# Altium footprint library User Interface.PcbLib: 2 footprints
Each footprint in its own frame and in the unit in brackets; x right, y up, seen from the top. Pads: shape width x height; smd on the part's side, far side on the other; paste and mask are expansions set on the pad; w line width, h text height; cw(c..) or ccw(c..) is an arc to the next point about the centre after c.
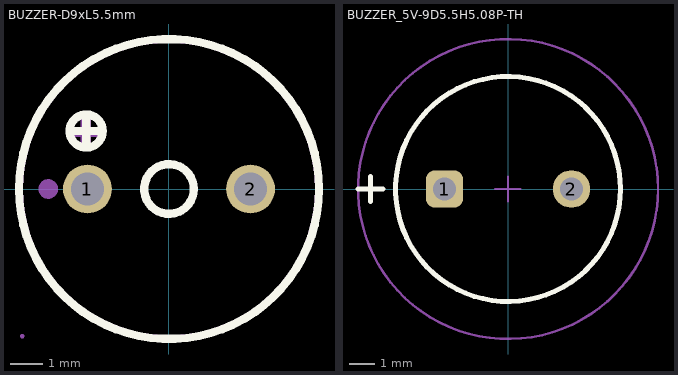
[diagram p0: the footprints below, top view; thin cyan lines are the x and y axes]

## BUZZER-D9xL5.5mm [mm]
pads (2):
  round 1.5 hole 1: 1(-2.5,0) 2(2.5,0)
Top Overlay:
  circle w0.254: c-2.54,1.778 r0.508
  circle w0.254: c0,0 r0.762
  circle w0.254: c0,0 r4.6
  lines w0.254: -3.048,1.778 -2.032,1.778 ; -2.54,1.27 -2.54,2.286
Mechanical 15:
  region: -4.44,-4.511 -4.44,-4.536 -4.475,-4.571 -4.525,-4.571 -4.56,-4.536 -4.56,-4.511 -4.56,-4.486 -4.525,-4.451 -4.475,-4.451 -4.44,-4.486
  region: -2.2,0 -2.2,-0.06 -2.246,-0.17 -2.33,-0.254 -2.44,-0.3 -2.56,-0.3 -2.67,-0.254 -2.754,-0.17 -2.8,-0.06 -2.8,0 -2.8,0.06 -2.754,0.17 -2.67,0.254 -2.56,0.3 -2.44,0.3 -2.33,0.254 -2.246,0.17 -2.2,0.06
  region: 2.8,0 2.8,-0.06 2.754,-0.17 2.67,-0.254 2.56,-0.3 2.44,-0.3 2.33,-0.254 2.246,-0.17 2.2,-0.06 2.2,0 2.2,0.06 2.246,0.17 2.33,0.254 2.44,0.3 2.56,0.3 2.67,0.254 2.754,0.17 2.8,0.06
  lines w0.051: -4.5,0 cw(c0,0.011) 4.5,0 cw(c0,-0.011) -4.5,0
Mechanical 29:
  circle w0.3: c-3.702,0 r0.15
  region: -3.1,1.6 -3.1,1.9 -2,1.9 -2,1.6
  region: -2.7,1.3 -2.7,2.2 -2.4,2.2 -2.4,1.3
  text "'.Designator'" at -0.66,-0.051 h1.52
3D body "CST-951AP--3DModel-STEP-1.STEP": height 4.5, standoff -4.5, extent -4.551,-4.398 4.449,4.602

## BUZZER_5V-9D5.5H5.08P-TH [mm]
pads (2):
  rrect50% 1.5x1.5 hole 0.9 mask+0.076: 1(-2.54,0)
  round 1.5 hole 0.9 mask+0.076: 2(2.54,0)
Top Overlay:
  circle w0.2: c0,0 r4.5
  lines w0.2: -6,0 -5,0 ; -5.5,-0.5 -5.5,0.5
Mechanical 15:
  circle w0.1: c0,0 r6
  lines w0.1: -0.5,0 0.5,0 ; 0,-0.5 0,0.5
Mechanical 29:
  circle w0.1: c0,0 r4.5
  lines w0.1: -6,0 -5,0 ; -5.5,-0.5 -5.5,0.5
  text "'.Designator'" at -3.626,-0.339 h1.5
3D body "User Library-Buzzer_9mm.STEP": height 5.6, standoff -5.4, extent -4.55,-4.55 4.55,4.55